# EAGLE library part HFW16R-2STE1LF (library Amphenol-HWF16R-2STE1LF)
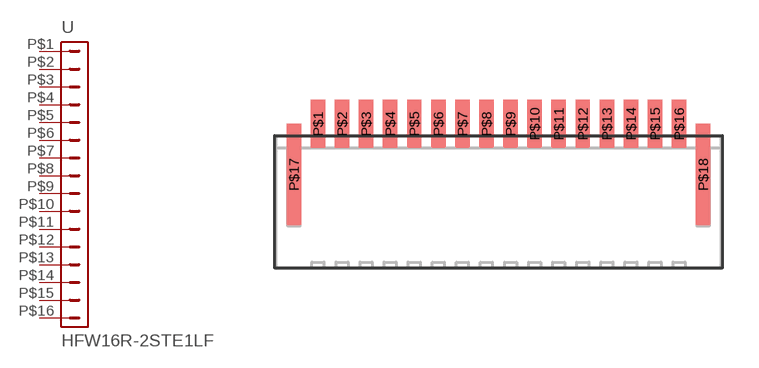
[diagram p0: symbol with the pads of HFW16R-2STE1LF; footprint HFW16R-2STE1LF]

Designator prefix -

## HFW16R-2STE1LF  [HFW16R-2STE1LF]
P$1  1  pas
P$2  2  pas
P$3  3  pas
P$4  4  pas
P$5  5  pas
P$6  6  pas
P$7  7  pas
P$8  8  pas
P$9  9  pas
P$10  10  pas
P$11  11  pas
P$12  12  pas
P$13  13  pas
P$14  14  pas
P$15  15  pas
P$16  16  pas

## Footprint HFW16R-2STE1LF (pad centres in mm)
smd 0.6 x 2: P$1 -7.5,6; P$2 -6.5,6; P$3 -5.5,6; P$4 -4.5,6; P$5 -3.5,6; P$6 -2.5,6; P$7 -1.5,6; P$8 -0.5,6; P$9 0.5,6; P$10 1.5,6; P$11 2.5,6; P$12 3.5,6; P$13 4.5,6; P$14 5.5,6; P$15 6.5,6; P$16 7.5,6
smd 0.6 x 4.2: P$17 -8.5,3.9; P$18 8.5,3.9